# Altium schematic symbol library RC0402FR072KL.SchLib: 2 symbols
Pins are listed as number, name and electrical type; pins without a type are passive.

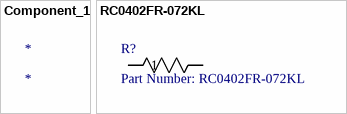
[diagram p0: symbols Component_1 to RC0402FR-072KL]

## Component_1
designator *

## RC0402FR-072KL
designator R?, comment Part Number: RC0402FR-072KL
No Description Available; Vendor: Yageo; Built_By: EMA_UL_Team; Manufacturer_Part_Number: RC0402FR-072KL; Copyright: Copyright (C) 2018 Accelerated Designs. All rights reserved; RefDes: RefDes; Type: DEV; Value: Value
footprint YAG_R0402
pins: 1, 2